# Altium schematic symbol library diploma.SchLib: 47 symbols
Pins are listed as number, name and electrical type; pins without a type are passive.

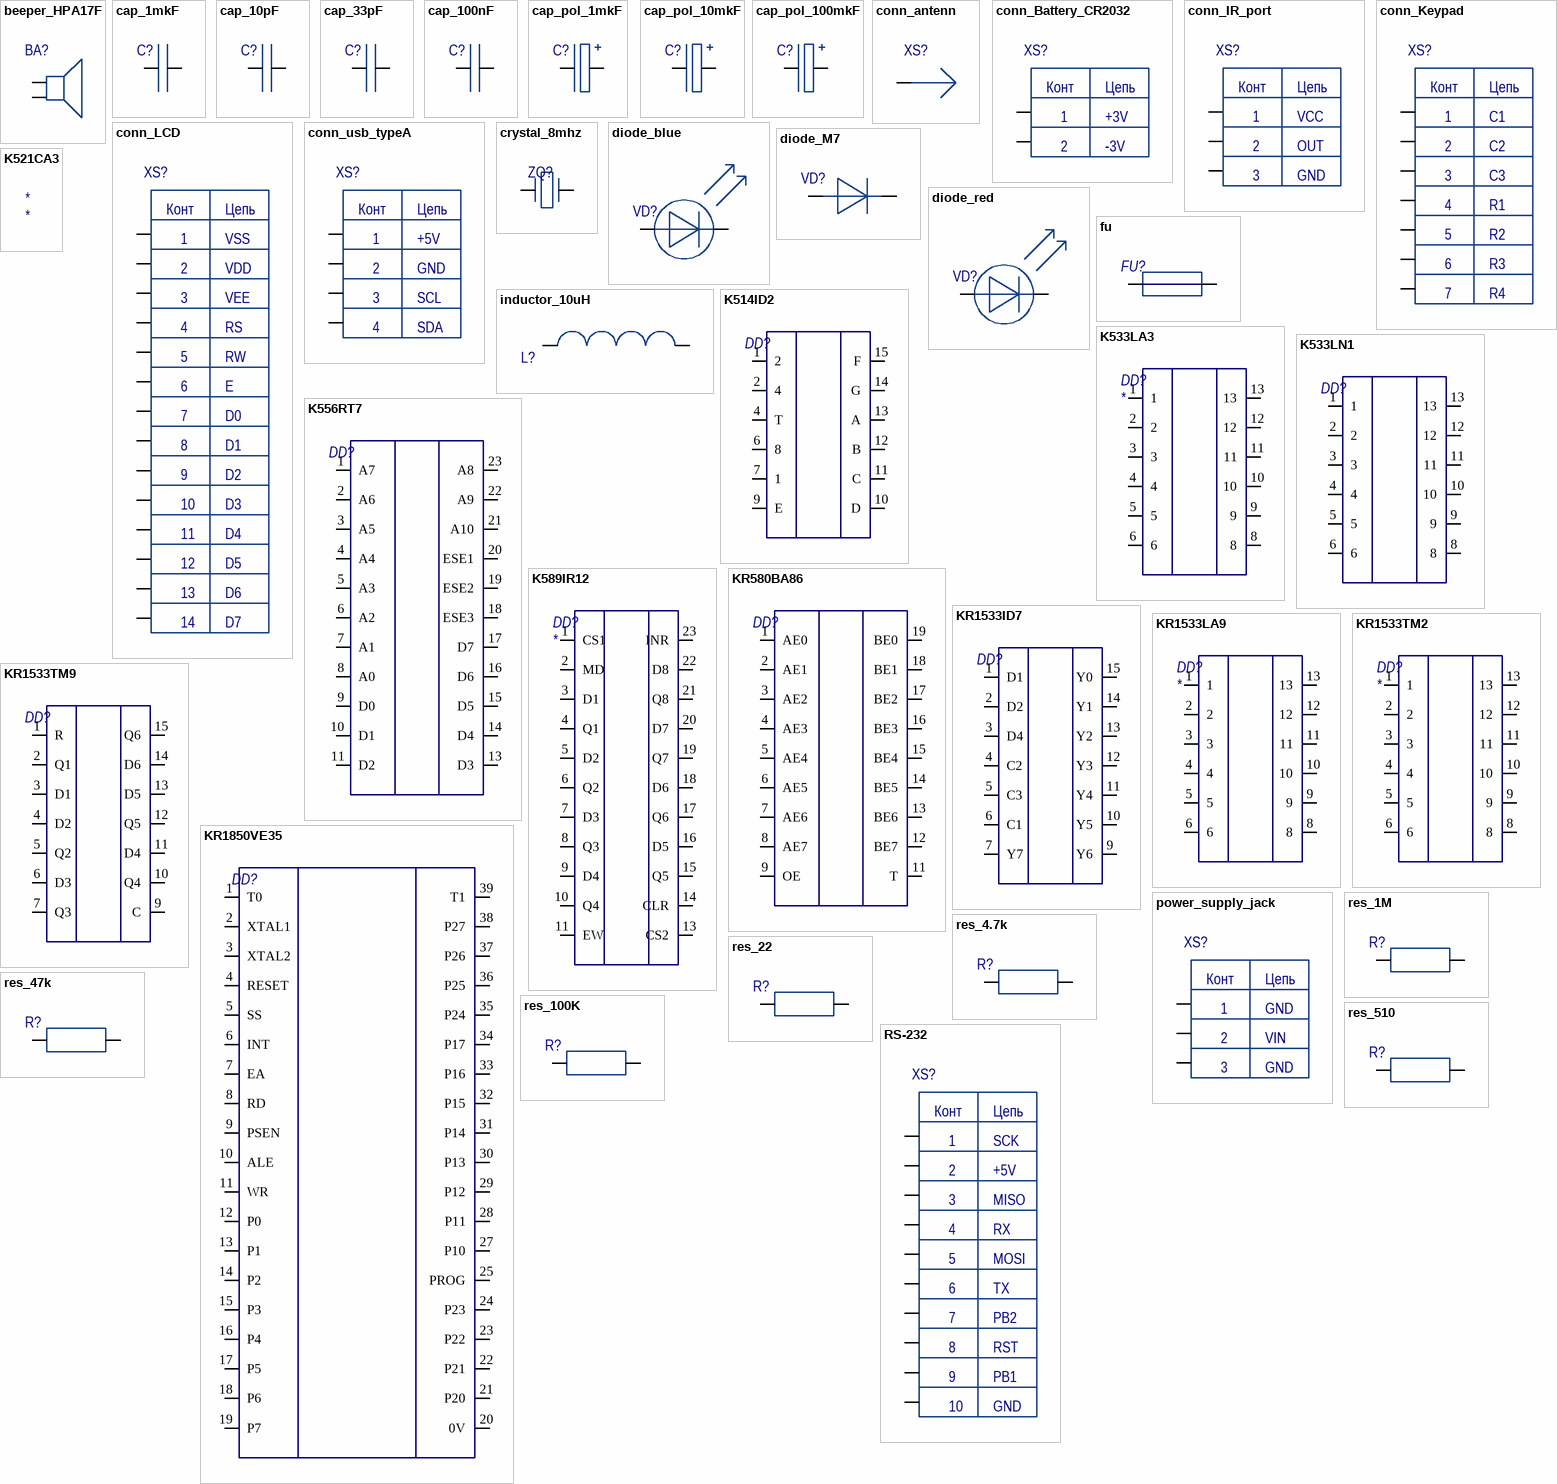
[diagram p0: symbols beeper_HPA17F to RS-232]

## beeper_HPA17F
designator BA?  (value not drawn)
pins: 1, 2

## cap_1mkF
designator C?, comment 1mkF  (value not drawn)
pins: 1, 2

## cap_10pF
designator C?, comment 10pF  (value not drawn)
pins: 1, 2

## cap_33pF
designator C?, comment 33pF  (value not drawn)
pins: 1, 2

## cap_100nF
designator C?, comment 100nF  (value not drawn)
pins: 1, 2

## cap_pol_1mkF
designator C?, comment pol_1mkF  (value not drawn)
pins: 1, 2

## cap_pol_10mkF
designator C?, comment pol_10mkF  (value not drawn)
pins: 1, 2

## cap_pol_100mkF
designator C?, comment pol_100mkF  (value not drawn)
pins: 1, 2

## conn_antenn
designator XS?, comment antenn_RECE.20279.001E.01  (value not drawn)
pins: 1

## conn_Battery_CR2032
designator XS?, comment KLS5-CR2032-01  (value not drawn)
pins: 1 VCC, 2
text: Конт; Цепь; +3V; -3V

## conn_IR_port
designator XS?, comment VS1833B_IR_port  (value not drawn)
pins: 1 VCC, 2 OUT, 3 GND
text: Конт; Цепь

## conn_Keypad
designator XS?, comment KUIBIAOCHI_7pin_aliexp  (value not drawn)
pins: 1 VSS, 2 VDD, 3 VO, 4 C/D, 5 *RD, 6 *WR, 7 D0
text: Конт; Цепь; C1; C2; C3; R1; R2; R3; R4

## conn_LCD
designator XS?, comment KUIBIAOCHI_14pin_aliexp  (value not drawn)
pins: 1 VSS, 2 VDD, 3 VO, 4 C/D, 5 *RD, 6 *WR, 7 D0, 8 D1, 9 D2, 10 D3, 11 D4, 12 D5, 13 D6, 14 D7
text: Конт; Цепь; VEE; RS; RW; E

## conn_usb_typeA
designator XS?, comment DS1095 W-R  (value not drawn)
pins: 1 +5V, 2 GND, 3 SCL, 4 SDA
text: Конт; Цепь

## crystal_8mhz
designator ZQ?, comment HC-49S  (value not drawn)
footprint XTAL_ECS-50-18-5PLX-AGN-TR
pins: 1, 2

## diode_blue
designator VD?, comment blue_GNL-3014BC  (value not drawn)
pins: 1, 2

## diode_M7
designator VD?, comment M7  (value not drawn)
pins: 1, 2

## diode_red
designator VD?, comment red_GNL-3012HD  (value not drawn)
pins: 1, 2

## fu
designator FU?  (value not drawn)
pins: 1, 2

## inductor_10uH
designator L?, comment B82432-A1103-K  (value not drawn)
pins: 1, 2

## K514ID2
designator DD?  (value not drawn)
pins: 1 2, 2 4, 4 T, 6 8, 7 1, 8 GND hidden, 9 E, 10 D, 11 C, 12 B, 13 A, 14 G, 15 F, 16 Ucc hidden

## K521CA3
designator *

## K533LA3
designator DD?
pins: 1, 2, 3, 4, 5, 6, 8, 9, 10, 11, 12, 13

## K533LN1
designator DD?  (value not drawn)
pins: 1, 2, 3, 4, 5, 6, 7 GND hidden, 8, 9, 10, 11, 12, 13, 14 Ucc hidden

## K556RT7
designator DD?  (value not drawn)
pins: 1 A7, 2 A6, 3 A5, 4 A4, 5 A3, 6 A2, 7 A1, 8 A0, 9 D0, 10 D1, 11 D2, 12 GND hidden, 13 D3, 14 D4, 15 D5, 16 D6, 17 D7, 18 ESE3, 19 ESE2, 20 ESE1, 21 A10, 22 A9, 23 A8, 24 Ucc hidden

## K589IR12
designator DD?
pins: 1 CS1, 2 MD, 3 D1, 4 Q1, 5 D2, 6 Q2, 7 D3, 8 Q3, 9 D4, 10 Q4, 11 EW, 12 GND hidden, 13 CS2, 14 CLR, 15 Q5, 16 D5, 17 Q6, 18 D6, 19 Q7, 20 D7, 21 Q8, 22 D8, 23 INR, 24 Ucc hidden

## KR580BA86
designator DD?  (value not drawn)
pins: 1 AE0, 2 AE1, 3 AE2, 4 AE3, 5 AE4, 6 AE5, 7 AE6, 8 AE7, 9 OE, 10 GND hidden, 11 T, 12 BE7, 13 BE6, 14 BE5, 15 BE4, 16 BE3, 17 BE2, 18 BE1, 19 BE0, 20 Ucc hidden

## KR1533ID7
designator DD?  (value not drawn)
pins: 1 D1, 2 D2, 3 D4, 4 C2, 5 C3, 6 C1, 7 Y7, 8 GND hidden, 9 Y6, 10 Y5, 11 Y4, 12 Y3, 13 Y2, 14 Y1, 15 Y0, 16 VCC hidden

## KR1533LA9
designator DD?
pins: 1, 2, 3, 4, 5, 6, 8, 9, 10, 11, 12, 13

## KR1533TM2
designator DD?
pins: 1, 2, 3, 4, 5, 6, 8, 9, 10, 11, 12, 13

## KR1533TM9
designator DD?  (value not drawn)
pins: 1 R, 2 Q1, 3 D1, 4 D2, 5 Q2, 6 D3, 7 Q3, 8 GND hidden, 9 C, 10 Q4, 11 D4, 12 Q5, 13 D5, 14 D6, 15 Q6, 16 Vcc hidden

## KR1850VE35
designator DD?  (value not drawn)
pins: 1 T0, 2 XTAL1, 3 XTAL2, 4 RESET, 5 SS, 6 INT, 7 EA, 8 RD, 9 PSEN, 10 ALE, 11 WR, 12 P0, 13 P1, 14 P2, 15 P3, 16 P4, 17 P5, 18 P6, 19 P7, 20 0V, 21 P20, 22 P21, 23 P22, 24 P23, 25 PROG, 26 GND hidden, 27 P10, 28 P11, 29 P12, 30 P13, 31 P14, 32 P15, 33 P16, 34 P17, 35 P24, 36 P25, 37 P26, 38 P27, 39 T1, 40 Ucc hidden

## power_supply_jack
designator XS?, comment ADC-029  (value not drawn)
pins: 1 +5V, 2 GND, 3 SCL
text: Конт; Цепь; VIN

## res_1M
designator R?  (value not drawn)
pins: 1, 2

## res_4.7k
designator R?  (value not drawn)
pins: 1, 2

## res_22
designator R?  (value not drawn)
pins: 1, 2

## res_47k
designator R?  (value not drawn)
pins: 1, 2

## res_100K
designator R?  (value not drawn)
pins: 1, 2

## res_510
designator R?  (value not drawn)
pins: 1, 2

## RS-232
designator XS?, comment BH-10  (value not drawn)
pins: 1 VSS, 2 VDD, 3 VO, 4 C/D, 5 *RD, 6 *WR, 7 D0, 8 D1, 9 D2, 10 D3
text: Конт; Цепь; SCK; +5V; MISO; RX; MOSI; TX; PB2; RST; PB1; GND

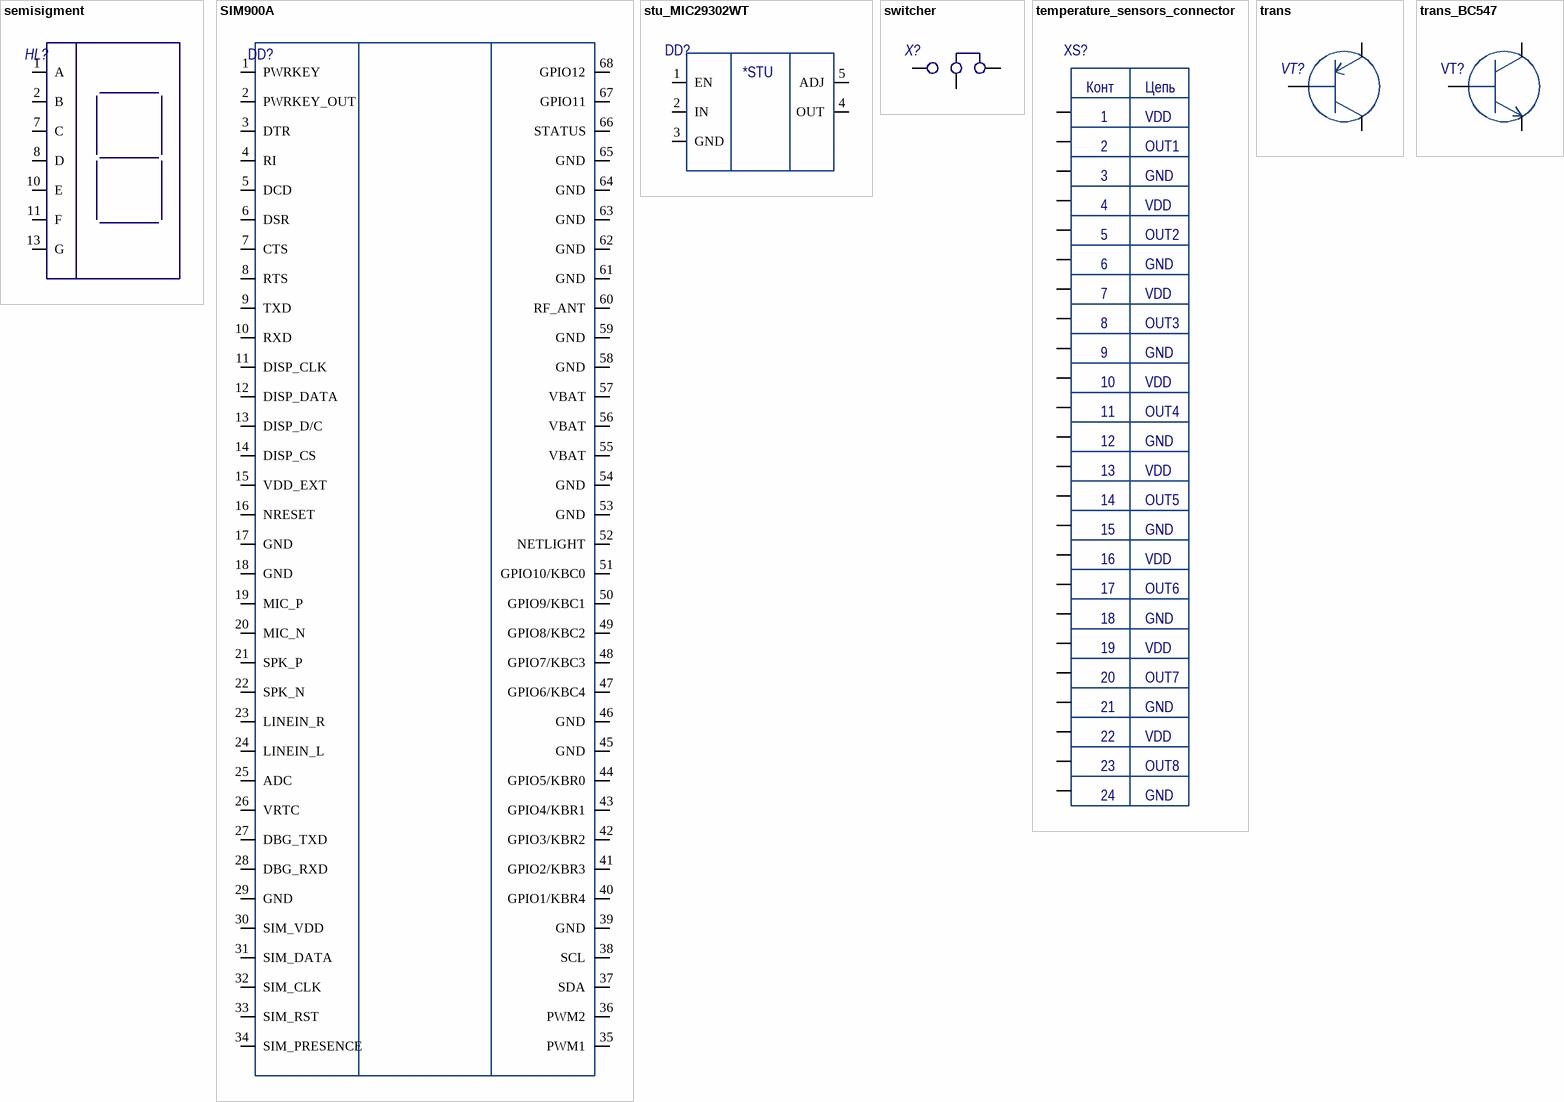
[diagram p1: symbols semisigment to trans_BC547]

## semisigment
designator HL?  (value not drawn)
pins: 1 A, 2 B, 3 Ucc hidden, 7 C, 8 D, 9 Ucc hidden, 10 E, 11 F, 13 G, 14 Ucc hidden

## SIM900A
designator DD?  (value not drawn)
pins: 1 PWRKEY, 2 PWRKEY_OUT, 3 DTR, 4 RI, 5 DCD, 6 DSR, 7 CTS, 8 RTS, 9 TXD, 10 RXD, 11 DISP_CLK, 12 DISP_DATA, 13 DISP_D/C, 14 DISP_CS, 15 VDD_EXT, 16 NRESET, 17 GND, 18 GND, 19 MIC_P, 20 MIC_N, 21 SPK_P, 22 SPK_N, 23 LINEIN_R, 24 LINEIN_L, 25 ADC, 26 VRTC, 27 DBG_TXD, 28 DBG_RXD, 29 GND, 30 SIM_VDD, 31 SIM_DATA, 32 SIM_CLK, 33 SIM_RST, 34 SIM_PRESENCE, 35 PWM1, 36 PWM2, 37 SDA, 38 SCL, 39 GND, 40 GPIO1/KBR4, 41 GPIO2/KBR3, 42 GPIO3/KBR2, 43 GPIO4/KBR1, 44 GPIO5/KBR0, 45 GND, 46 GND, 47 GPIO6/KBC4, 48 GPIO7/KBC3, 49 GPIO8/KBC2, 50 GPIO9/KBC1, 51 GPIO10/KBC0, 52 NETLIGHT, 53 GND, 54 GND, 55 VBAT, 56 VBAT, 57 VBAT, 58 GND, 59 GND, 60 RF_ANT, 61 GND, 62 GND, 63 GND, 64 GND, 65 GND, 66 STATUS, 67 GPIO11, 68 GPIO12

## stu_MIC29302WT
designator DD?, comment MIC29302WT  (value not drawn)
pins: 1 EN, 2 IN, 3 GND, 4 OUT, 5 ADJ
text: *STU

## switcher
designator X?  (value not drawn)
pins: 1, 2, 3

## temperature_sensors_connector
designator XS?, comment BH-24  (value not drawn)
pins: 1 VSS, 2 VDD, 3 VO, 4 C/D, 5 *RD, 6 *WR, 7 D0, 8 D1, 9 D2, 10 D3, 11 D4, 12 D5, 13 D6, 14 D7, 15, 16, 17, 18, 19, 20, 21, 22, 23, 24
text: Конт; Цепь; OUT1; GND; OUT2; OUT3; OUT4; OUT5; OUT6; OUT7; OUT8

## trans
designator VT?  (value not drawn)
pins: 1 E, 2 B, 3 C

## trans_BC547
designator VT?, comment BC547  (value not drawn)
pins: 1 E, 2 B, 3 C